# EAGLE library part DS1683 (library own_parts2)
Maxim integrated elapsed-time recorder IC
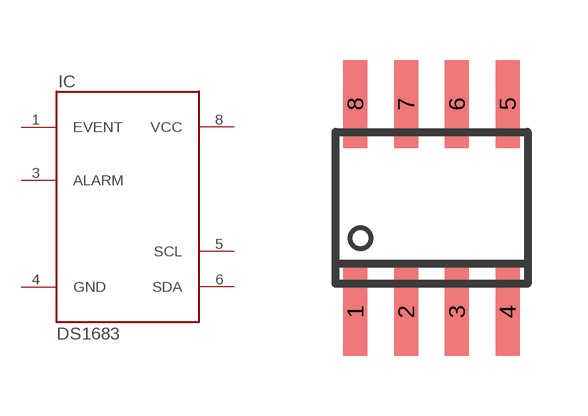
[diagram p6: symbol with the pads of SO8; footprint SO8]

Designator prefix IC

## DS1683  [SO8]
1  EVENT
3  ALARM
4  GND
5  SCL
6  SDA
8  VCC

## Footprint SO8 (pad centres in mm)
SMALL OUTLINE INTEGRATED CIRCUIT SOP-8L Source: http://www.diodes.com/datasheets/ds31262.pdf
smd 0.6 x 2.2: 1 -1.905,-2.6; 2 -0.635,-2.6; 3 0.635,-2.6; 4 1.905,-2.6; 5 1.905,2.6; 6 0.635,2.6; 7 -0.635,2.6; 8 -1.905,2.6